# EAGLE library part I__74*45 (library ..SMD)
BCD to decimal DECODER/DRIVER
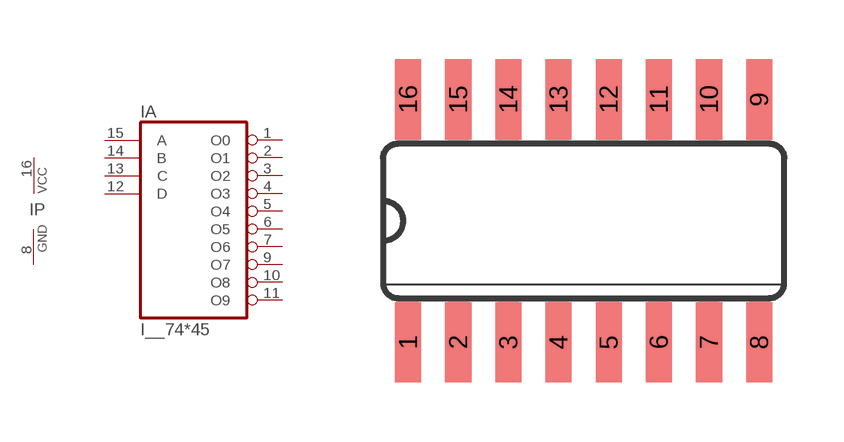
[diagram p176: symbol with the pads of SO16; footprint SO16]

Designator prefix I; gates A=7445 P=PWRN-2

## I__7445D  [SO16]
1  A:O0  oc
2  A:O1  oc
3  A:O2  oc
4  A:O3  oc
5  A:O4  oc
6  A:O5  oc
7  A:O6  oc
8  P:GND  pwr
9  A:O7  oc
10  A:O8  oc
11  A:O9  oc
12  A:D  in
13  A:C  in
14  A:B  in
15  A:A  in
16  P:VCC  pwr

## Footprint SO16 (pad centres in mm)
Small Outline Package 16
smd 0.66 x 2.032: 1 -4.445,-3.073; 2 -3.175,-3.073; 3 -1.905,-3.073; 4 -0.635,-3.073; 5 0.635,-3.073; 6 1.905,-3.073; 7 3.175,-3.073; 8 4.445,-3.073; 9 4.445,3.073; 10 3.175,3.073; 11 1.905,3.073; 12 0.635,3.073; 13 -0.635,3.073; 14 -1.905,3.073; 15 -3.175,3.073; 16 -4.445,3.073